# Altium schematic symbol library TPIC74100QPWPRQ1.SchLib: 1 symbol
Pins are listed as number, name and electrical type; pins without a type are passive.

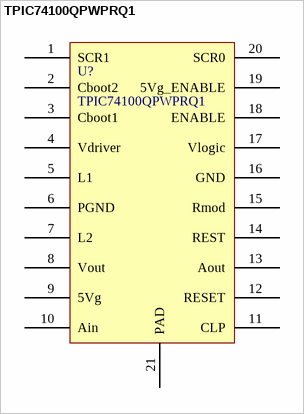
[diagram p0: symbol TPIC74100QPWPRQ1]

## TPIC74100QPWPRQ1
designator U?
pins: 1 SCR1, 2 Cboot2, 3 Cboot1, 4 Vdriver, 5 L1, 6 PGND, 7 L2, 8 Vout, 9 5Vg, 10 Ain, 11 CLP, 12 RESET, 13 Aout, 14 REST, 15 Rmod, 16 GND, 17 Vlogic, 18 ENABLE, 19 5Vg_ENABLE, 20 SCR0, 21 PAD
1 alternate drawing of the same symbol